# Altium footprint library LTC3388.PcbLib: 3 footprints
Each footprint in its own frame and in the unit in brackets; x right, y up, seen from the top. Pads: shape width x height; smd on the part's side, far side on the other; paste and mask are expansions set on the pad; w line width, h text height; cw(c..) or ccw(c..) is an arc to the next point about the centre after c.
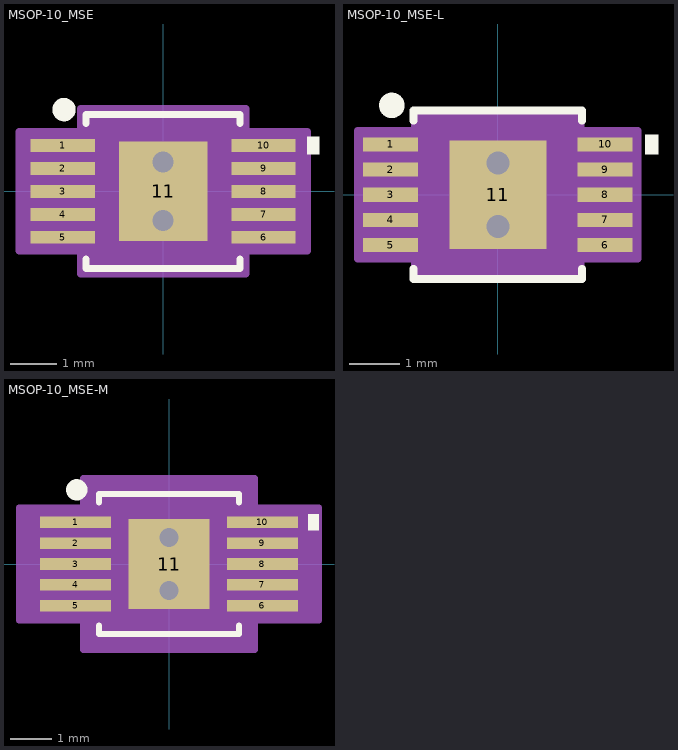
[diagram p0: the footprints below, top view; thin cyan lines are the x and y axes]

## MSOP-10_MSE [mil]
pads (11):
  rect 55x11 smd: 1(-86,39.4) 2(-86,19.7) 3(-86,0) 4(-86,-19.7) 5(-86,-39.4) 6(86,-39.4) 7(86,-19.7) 8(86,0) 9(86,19.7) 10(86,39.4)
  rect 76x85 smd paste-42: 11(0,0)
via 0,25 diameter 30 hole 18
via 0,-25 diameter 30 hole 18
Top Overlay:
  circle w10: c-85,70 r5
  region: 123.5,46.9 133.5,46.9 133.5,31.9 123.5,31.9
  lines w6: -66,-58 -66,-66 66,-66 66,-58 ; -66,58 -66,66 66,66 66,58
Top Paste:
  region: 38,42.5 -38,42.5 -38,-42.5 38,-42.5
Mechanical 13:
  lines w0: -12,61 ccw(c0,61) 12,61
Mechanical 15:
  region: -71,-51.25 -123.5,-51.25 -123.5,51.25 -71,51.25 -71,71 71,71 71,51.25 123.5,51.25 123.5,-51.25 71,-51.25 71,-71 -71,-71
  lines w6: -123.5,-51.25 -123.5,51.25 -71,51.25 -71,71 71,71 71,51.25 123.5,51.25 123.5,-51.25 71,-51.25 71,-71 -71,-71 -71,-51.25 -123.5,-51.25
3D body "MSOP-10_MSE.stp": height 43.1, standoff -2, extent -99.5,-61 99.5,61

## MSOP-10_MSE-L [mil]
pads (11):
  rect 43x11 smd: 1(-84,39.4) 2(-84,19.7) 3(-84,0) 4(-84,-19.7) 5(-84,-39.4) 6(84,-39.4) 7(84,-19.7) 8(84,0) 9(84,19.7) 10(84,39.4)
  rect 76x85 smd paste-42: 11(0,0)
via 0,-25 diameter 30 hole 18
via 0,25 diameter 30 hole 18
Top Overlay:
  circle w10: c-83,70 r5
  region: 115.5,46.9 125.5,46.9 125.5,31.9 115.5,31.9
  lines w6: -66,-58 -66,-66 66,-66 66,-58 ; -66,58 -66,66 66,66 66,58
Top Paste:
  region: 38,42.5 -38,42.5 -38,-42.5 38,-42.5
Mechanical 13:
  lines w0: -12,61 ccw(c0,61) 12,61
Mechanical 15:
  region: -65,-50.05 -109.5,-50.05 -109.5,50.05 -65,50.05 -65,65 65,65 65,50.05 109.5,50.05 109.5,-50.05 65,-50.05 65,-65 -65,-65
  lines w6: -109.5,-50.05 -65,-50.05 -65,-65 65,-65 65,-50.05 109.5,-50.05 109.5,50.05 65,50.05 65,65 -65,65 -65,50.05 -109.5,50.05 -109.5,-50.05
3D body "MSOP-10_MSE-L.stp": height 43.1, standoff -2, extent -99.5,-61 99.5,61

## MSOP-10_MSE-M [mil]
pads (11):
  rect 67x11 smd: 1(-88,39.4) 2(-88,19.7) 3(-88,0) 4(-88,-19.7) 5(-88,-39.4) 6(88,-39.4) 7(88,-19.7) 8(88,0) 9(88,19.7) 10(88,39.4)
  rect 76x85 smd paste-42: 11(0,0)
via 0,-25 diameter 30 hole 18
via 0,25 diameter 30 hole 18
Top Overlay:
  circle w10: c-87,70 r5
  region: 131.5,46.9 141.5,46.9 141.5,31.9 131.5,31.9
  lines w6: -66,-58 -66,-66 66,-66 66,-58 ; -66,58 -66,66 66,66 66,58
Top Paste:
  region: 38,42.5 -38,42.5 -38,-42.5 38,-42.5
Mechanical 13:
  lines w0: -12,61 ccw(c0,61) 12,61
Mechanical 15:
  region: -81,-53.25 -141.5,-53.25 -141.5,53.25 -81,53.25 -81,81 81,81 81,53.25 141.5,53.25 141.5,-53.25 81,-53.25 81,-81 -81,-81
  lines w6: -141.5,-53.25 -81,-53.25 -81,-81 81,-81 81,-53.25 141.5,-53.25 141.5,53.25 81,53.25 81,81 -81,81 -81,53.25 -141.5,53.25 -141.5,-53.25
3D body "MSOP-10_MSE-M.stp": height 43.1, standoff -2, extent -99.5,-61 99.5,61